# Altium integrated library Battery.IntLib: 2 symbols
Pins are listed as number, name and electrical type; pins without a type are passive.

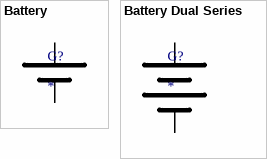
[diagram p0: symbols Battery to Battery Dual Series]

## Battery
designator G?
Battery Generic; Value: *
footprint Battery Holder MPD BK-869 (Battery Holder MPD BK-869, Case 17.5x18.5, Height 6.35mm, For CR1616, CR1620, CR1632)
footprint Battery Holder Keystone 3007 CR2450
footprint Battery Holder Linx BAT-HLD-001 (Battery Holder Linx BAT-HLD, Height 4.2mm, For CR2025, CR2032)
footprint Battery Panassonic VL2330/1HF
footprint 1.5V Cell AAA/LR03 (Battery Cell D10.5 L44.5)
footprint 1.5V Cell AA/LR6 (Battery Cell D14.5 L50.5)
footprint 1.5V Cell 4LR44 (Battery Cell D13 L25.2)
footprint Battery Holder Harwin S8201-46R (Battery Holder Harwin S8201-46R, Height 3.2mm, For CR1225)
footprint UMAL-B C14.0x21.0 (Electronic Battery 240mA(10C) 2.7V Lithium)
footprint 1.5V Cell AAA/LR03 SMD (Battery Cell D10.5 L44.5 Keystone Model 55)
footprint Battery Holder Renata SMTU2450
footprint Battery Holder Keystone 18650 TH 1043 (Battery Holder Keystone 18650, Trough Hole version 1043)
footprint Battery Holder LR14 BULGIN BX0036
footprint Battery Holder Renata HU2477N
footprint Battery Holder Keystone 18650 SMD 1042P (Battery Holder Keystone 18650, SMD version 1042P)
pins: 1 +, 2 —

## Battery Dual Series
designator G?
Two Battery serial connection; Value: *
footprint Battery Holder Keystone 2xAAA 2468 (Battery Holder Keystone 2xAAA, Trough Hole version 2468)
pins: 1 +, 2 —